# Altium schematic symbol library SJA1000.SchLib: 1 symbol
Pins are listed as number, name and electrical type; pins without a type are passive.

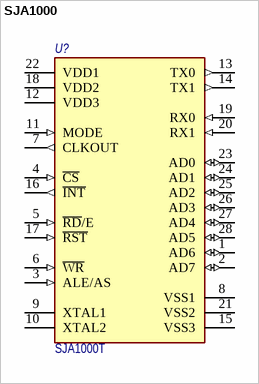
[diagram p0: symbol SJA1000]

## SJA1000
designator U?, comment SJA1000T
IC STAND-ALONE CAN CTRLR 28-SOIC; Manufacturer Part Number: SJA1000T/N1,118; Manufacturer: NXP Semiconductors; Standoff Height: 0.1mm; Interface: Parallel,CAN; Max Supply Voltage: 5.5V; Min Supply Voltage: 4.5V; Nominal Supply Current: 15mA; Потрбление, Вт: 0.075; Ipc Land Pattern Name: SOIC127P1032X265-28; Device Class L2: Interface ICs; Ambient Temperature Range High: +125°C; Temperature Range High: +125°C; Device Class L3: Controllers; Automotive: No; Octopart: https://octopart.com/sja1000t%2Fn1%2C118-nxp+semiconductors-9518151; Height: 2.65mm; Package: SOT136-1; Digikey Description: IC STAND-ALONE CAN CTRLR 28-SOIC; ComponentLink2Description: Datasheet; Footprint Url: https://www.nxp.com/docs/en/package-information/SOT136-1.pdf; Device Class L1: Integrated Circuits (ICs); ComponentLink2URL: https://www.nxp.com/docs/en/data-sheet/SJA1000.pdf; Lead Free: Yes; RoHS: TRUE; Category: IC; Mouser Description: Network Controller & Processor ICs STAND ALONE CAN; Temperature: -40°C to +125°C; Ambient Temperature Range Low: -40°C; Temperature Range Low: -40°C; Назначение: IC STAND-ALONE CAN CTRLR 28-SOIC; Наименование: SJA1000T
footprint SO28
pins: 1 AD6 (io), 2 AD7 (io), 3 ALE/AS (in), 4 ~{CS} (in), 5 ~{RD}/E (in), 6 ~{WR} (in), 7 CLKOUT (out), 8 VSS1 (power), 9 XTAL1, 10 XTAL2, 11 MODE (in), 12 VDD3 (power), 13 TX0 (out), 14 TX1 (out), 15 VSS3 (power), 16 ~{INT} (out), 17 ~{RST} (in), 18 VDD2 (power), 19 RX0 (in), 20 RX1 (in), 21 VSS2 (power), 22 VDD1 (power), 23 AD0 (io), 24 AD1 (io), 25 AD2 (io), 26 AD3 (io), 27 AD4 (io), 28 AD5 (io)